# Altium footprint library PcbLib1.PcbLib: 29 footprints (part 1 of 2)
Each footprint in its own frame and in the unit in brackets; x right, y up, seen from the top. Pads: shape width x height; smd on the part's side, far side on the other; paste and mask are expansions set on the pad; w line width, h text height; cw(c..) or ccw(c..) is an arc to the next point about the centre after c.
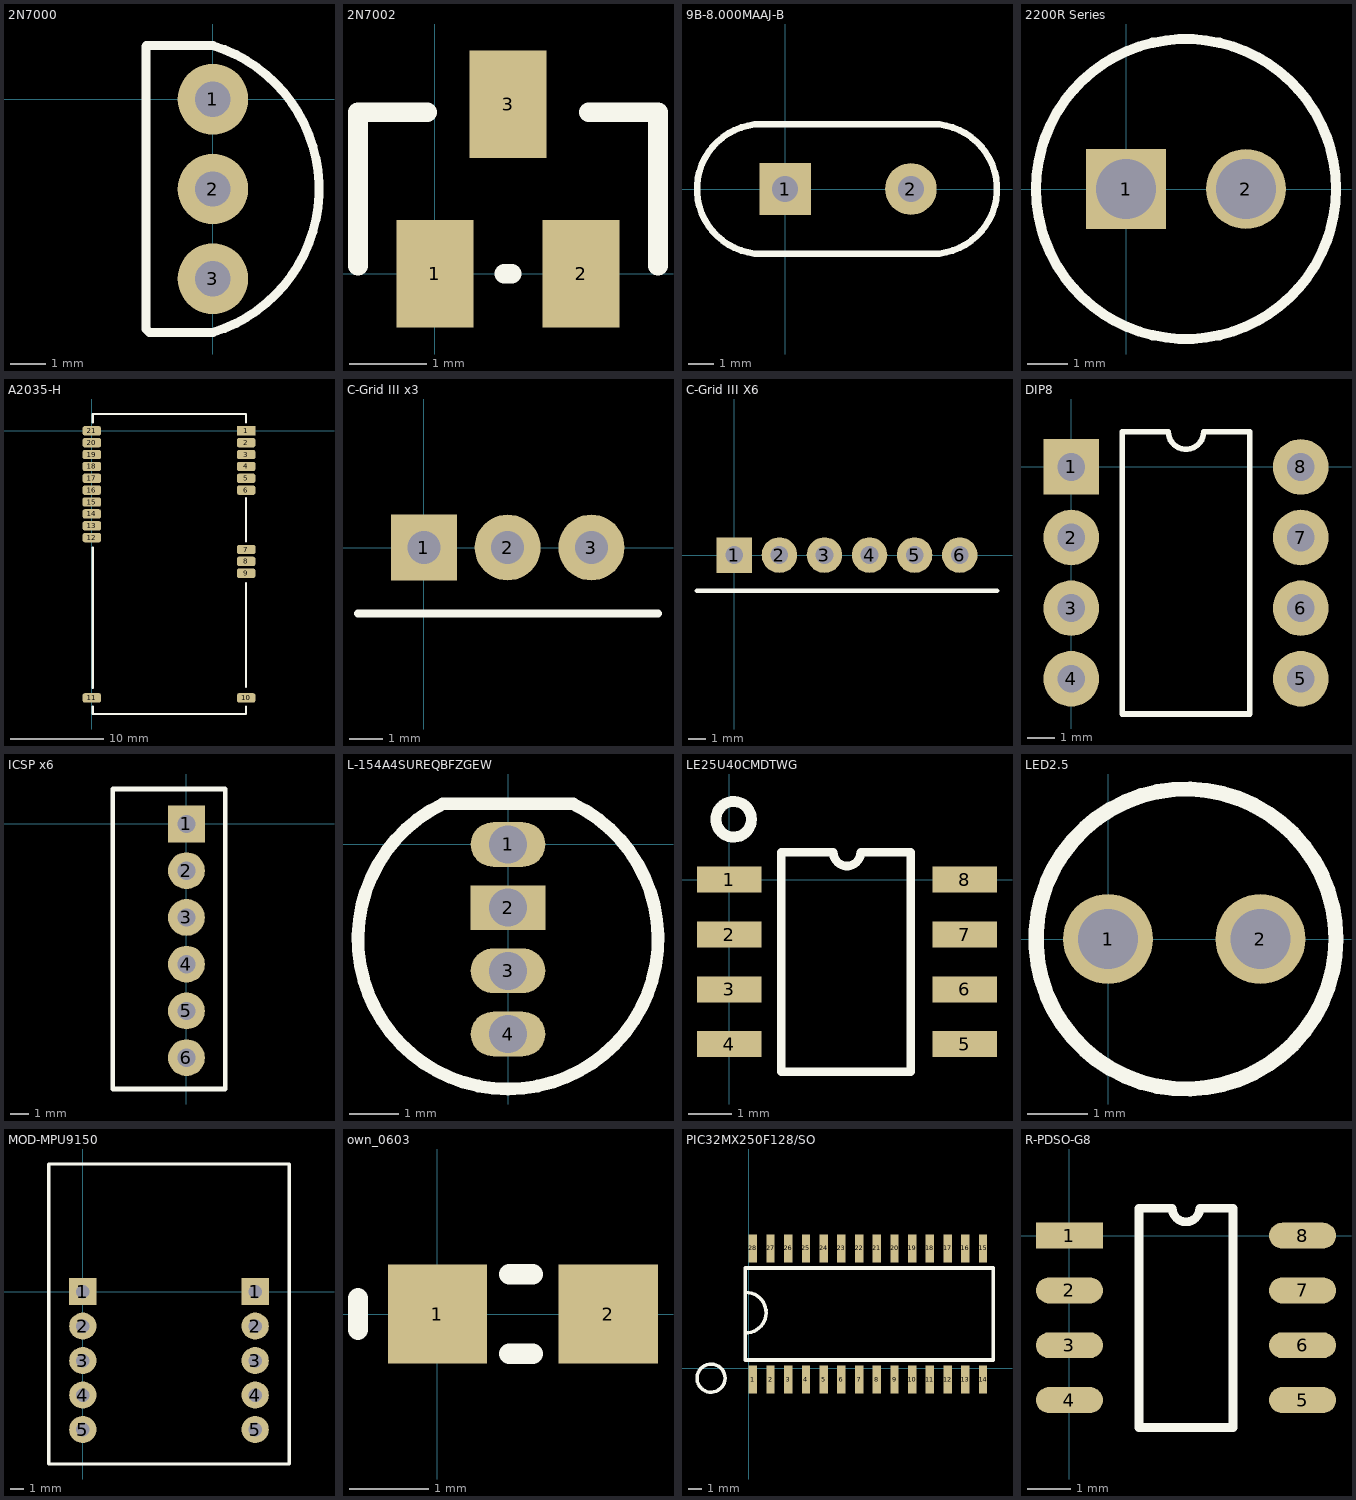
[diagram p0: the footprints below, top view; thin cyan lines are the x and y axes]

## 2N7000 [mm]
pads (3):
  round 2 hole 1: 1(0,0) 2(0,-2.54) 3(0,-5.08)
Top Overlay:
  lines w0.254: -1.9,1.5 -1.9,-6.5 -1.8,-6.6 0,-6.6 ccw(c-1.243,-2.54) 0,1.52 -1.88,1.52

## 2N7002 [mm]
pads (3):
  rect 1x1.4 smd: 1(0,0) 2(1.9,0) 3(0.95,2.2)
Top Overlay:
  lines w0.254: -1,0.1 -1,0.35 -1,1.85 -1,2.1 -0.1,2.1 ; 0.9,0 1,0 ; 2,2.1 2.9,2.1 2.9,1.85 2.9,0.35 2.9,0.1

## 9B-8.000MAAJ-B [mm] "Quartz 8MHz"
pads (2):
  rect 2x2 hole 1: 1(0,0)
  round 2 hole 1: 2(4.88,0)
Top Overlay:
  lines w0.254: 5.682,2.518 -0.9,2.518 ccw(c-0.9,0) -0.9,-2.518 5.7,-2.518 ccw(c5.7,0) 5.7,2.518

## 2200R Series [mm]
pads (2):
  rect 2x2 hole 1.5: 1(0,0)
  round 2 hole 1.5: 2(3,0)
Top Overlay:
  circle w0.254: c1.5,0 r3.75

## A2035-H [mm]
pads (21):
  rect 2x1 smd: 1(16.51,0)
  rrect50% 2x1 smd: 2(16.51,-1.27) 3(16.51,-2.54) 4(16.51,-3.81) 5(16.51,-5.08) 6(16.51,-6.35) 7(16.51,-12.7) 8(16.51,-13.97) 9(16.51,-15.24) 10(16.51,-28.575) 11(0,-28.575) 12(0,-11.43) 13(0,-10.16) 14(0,-8.89) 15(0,-7.62) 16(0,-6.35) 17(0,-5.08) 18(0,-3.81) 19(0,-2.54) 20(0,-1.27) 21(0,0)
Top Overlay:
  lines w0.254: 0.1,-29.5 0.1,-30.3 16.5,-30.3 16.5,-29.5 ; 0.1,-27.5 0.1,-12.5 ; 0.1,0.9 0.1,1.8 16.5,1.8 16.5,0.9 ; 16.5,-27.4 16.5,-16.3 ; 16.5,-11.8 16.5,-7.2

## C-Grid III x3 [mm]
pads (3):
  rect 2x2 hole 1: 1(0,0)
  round 2 hole 1: 2(2.54,0) 3(5.08,0)
Top Overlay:
  lines w0.254: -2,-2 7.1,-2

## C-Grid III X6 [mm]
pads (6):
  rect 2x2 hole 1: 1(0,0)
  round 2 hole 1: 2(2.54,0) 3(5.08,0) 4(7.62,0) 5(10.16,0) 6(12.7,0)
Top Overlay:
  lines w0.254: -2.1,-2 14.8,-2

## DIP8 [mm]
pads (8):
  rect 2x2 hole 1: 1(0,0)
  round 2 hole 1: 2(0,-2.54) 3(0,-5.08) 4(0,-7.62) 5(8.26,-7.62) 6(8.26,-5.08) 7(8.26,-2.54) 8(8.26,0)
Top Overlay:
  lines w0.2: 1.835,-8.89 1.835,1.27 3.495,1.27 ccw(c4.13,1.27) 4.765,1.27 6.425,1.27 6.425,-8.89 1.835,-8.89

## ICSP x6 [mm]
pads (6):
  rect 2x2 hole 1: 1(0,0)
  round 2 hole 1: 2(0,-2.54) 3(0,-5.08) 4(0,-7.62) 5(0,-10.16) 6(0,-12.7)
Top Overlay:
  lines w0.254: -4,-14.4 -4,1.9 2.1,1.9 2.1,-14.4 -4,-14.4

## L-154A4SUREQBFZGEW [mm] "LED RGB"
pads (4):
  oval 1.5x0.9 hole 0.762: 1(0,0) 3(0,-2.54) 4(0,-3.81)
  rect 1.5x0.9 hole 0.762: 2(0,-1.27)
Top Overlay:
  lines w0.254: -1.308,0.816 ccw(c0,-1.9) 1.308,0.816 -1.308,0.816

## LE25U40CMDTWG [mm]
pads (8):
  rect 1.5x0.6 smd: 1(0,0) 2(0,-1.27) 3(0,-2.54) 4(0,-3.81) 5(5.45,-3.81) 6(5.45,-2.54) 7(5.45,-1.27) 8(5.45,0)
Top Overlay:
  circle w0.254: c0.1,1.4 r0.412
  lines w0.2: 1.2,-4.445 1.2,0.635 2.407,0.635 ccw(c2.725,0.635) 3.042,0.635 4.2,0.635 4.2,-4.445 1.2,-4.445

## LED2.5 [mm] "LED"
pads (2):
  round 1.5 hole 1: 1(0,0) 2(2.54,0)
Top Overlay:
  circle w0.254: c1.3,0 r2.5

## MOD-MPU9150 [mm]
pads (10):
  rect 2x2 hole 1: 1(0,0) 1(12.7,0)
  round 2 hole 1: 2(0,-2.54) 2(12.7,-2.54) 3(0,-5.08) 3(12.7,-5.08) 4(0,-7.62) 4(12.7,-7.62) 5(0,-10.16) 5(12.7,-10.16)
Top Overlay:
  lines w0.254: -2.5,-12.7 15.2,-12.7 15.2,9.4 -2.5,9.4 -2.5,-12.7

## own_0603 [mm] "0603_fp"
pads (2):
  rect 1.25x1.25 smd: 1(0,0) 2(2.15,0)
Top Overlay:
  lines w0.256: -1,-0.2 -1,0.2 ; 0.9,-0.5 1.2,-0.5 ; 0.9,0.5 1.2,0.5

## PIC32MX250F128/SO [mm]
pads (28):
  rect 0.6x2 smd: 1(0.3,-0.8) 2(1.57,-0.8) 3(2.84,-0.8) 4(4.11,-0.8) 5(5.38,-0.8) 6(6.65,-0.8) 7(7.92,-0.8) 8(9.19,-0.8) 9(10.46,-0.8) 10(11.73,-0.8) 11(13,-0.8) 12(14.27,-0.8) 13(15.54,-0.8) 14(16.81,-0.8) 15(16.81,8.6) 16(15.54,8.6) 17(14.27,8.6) 18(13,8.6) 19(11.73,8.6) 20(10.46,8.6) 21(9.19,8.6) 22(7.92,8.6) 23(6.65,8.6) 24(5.38,8.6) 25(4.11,8.6) 26(2.84,8.6) 27(1.57,8.6) 28(0.3,8.6)
Top Overlay:
  circle w0.254: c-2.7,-0.7 r1.005
  lines w0.254: -0.244,2.546 ccw(c-0.2,4) -0.2,5.454 ; -0.25,0.6 17.55,0.6 17.55,7.2 -0.25,7.2 -0.25,0.6

## R-PDSO-G8 [mm] "TPS54231"
pads (8):
  rect 1.55x0.6 smd: 1(0,0)
  oval 1.55x0.6 smd: 2(0,-1.27) 3(0,-2.54) 4(0,-3.81) 5(5.4,-3.81) 6(5.4,-2.54) 7(5.4,-1.27) 8(5.4,0)
Top Overlay:
  lines w0.2: 1.61,-4.445 1.61,0.635 2.382,0.635 ccw(c2.7,0.635) 3.017,0.635 3.79,0.635 3.79,-4.445 1.61,-4.445